# Altium schematic symbol library diode.SCHLIB: 77 symbols
Pins are listed as number, name and electrical type; pins without a type are passive.

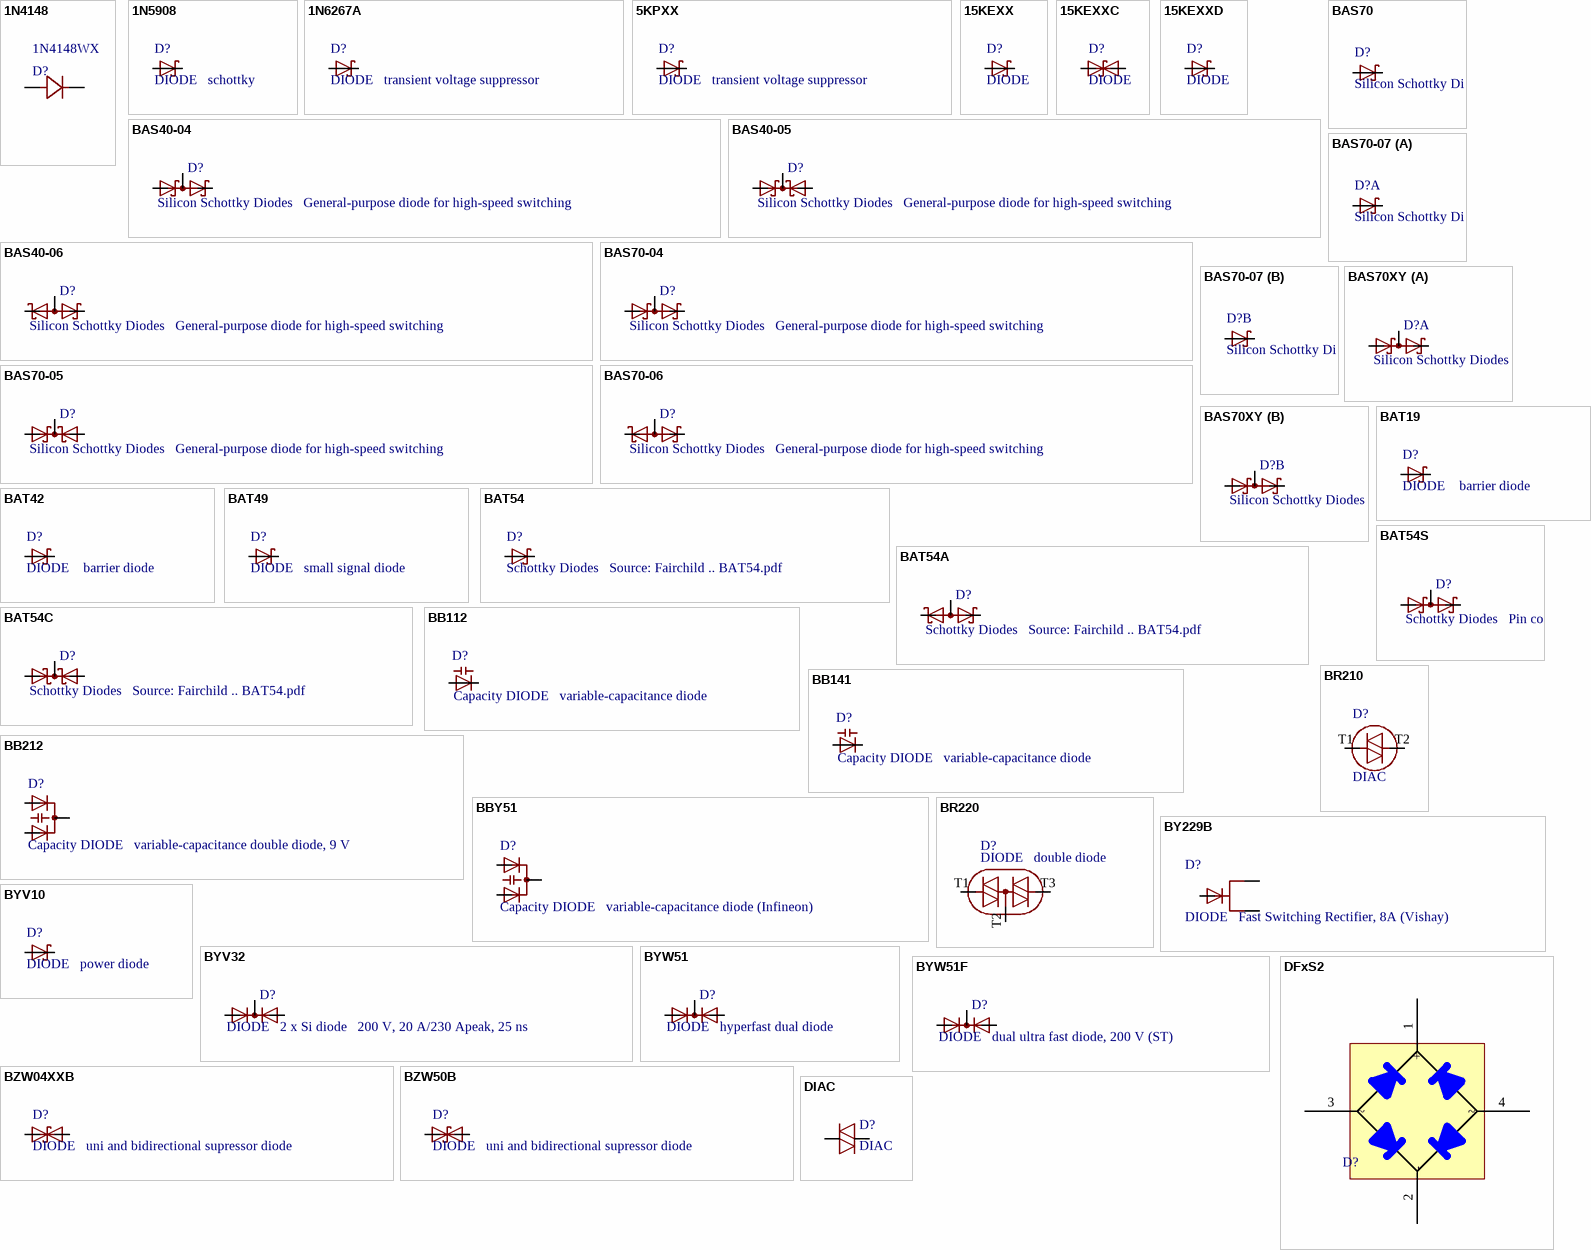
[diagram p0: symbols 1N4148 to DIAC]

## 1N4148
designator D?, comment 1N4148WX
Part Number: 1N4148WX
footprint SOD323
footprint MINIMELF
footprint DO35-7
footprint DO35-10
pins: A, C

## 1N5908
designator D?, comment DIODE   schottky
footprint C4111-15
pins: A, C

## 1N6267A
designator D?, comment DIODE   transient voltage suppressor
footprint C4111-15
pins: A, C

## 5KPXX
designator D?, comment DIODE   transient voltage suppressor
footprint P6T15
pins: A, C

## 15KEXX
designator D?, comment DIODE
footprint CB429-17
pins: A, C

## 15KEXXC
designator D?, comment DIODE
footprint CB429-17
pins: A 1, C 2

## 15KEXXD
designator D?, comment DIODE
footprint DO201T15
pins: A, C

## BAS40-04
designator D?, comment Silicon Schottky Diodes   General-purpose diode for high-speed switching
footprint SOT23
pins: 1 A1, 2 C2, 3 C1A2

## BAS40-05
designator D?, comment Silicon Schottky Diodes   General-purpose diode for high-speed switching
footprint SOT23
pins: 1 A1, 2 A2, 3 C

## BAS40-06
designator D?, comment Silicon Schottky Diodes   General-purpose diode for high-speed switching
footprint SOT23
pins: 1 K1, 2 K2, 3 AA

## BAS70
designator D?, comment Silicon Schottky Diodes   General-purpose diode for high-speed switching
footprint SOT23
pins: 1 A, 3 C

## BAS70-04
designator D?, comment Silicon Schottky Diodes   General-purpose diode for high-speed switching
footprint SOT23
pins: 1 A1, 2 C2, 3 C1A2

## BAS70-05
designator D?, comment Silicon Schottky Diodes   General-purpose diode for high-speed switching
footprint SOT23
pins: 1 A1, 2 A2, 3 C

## BAS70-06
designator D?, comment Silicon Schottky Diodes   General-purpose diode for high-speed switching
footprint SOT23
pins: 1 K1, 2 K2, 3 AA

## BAS70-07
designator D?, comment Silicon Schottky Diodes   General-purpose diode for high-speed switching Source: BAS70_1PS7XSB70_SER_8.pdf
footprint SOT143-R
part A pins: 1 C, 4 A
part B pins: 2 C, 3 A

## BAS70XY
designator D?, comment Silicon Schottky Diodes   General-purpose diode for high-speed switching Source: BAS70_1PS7XSB70_SER_8.pdf
footprint SOT363_PHILIPS
part A pins: 1 A1, 2 C2, 6 C1A2
part B pins: 3 C1A2, 4 A1, 5 C2

## BAT19
designator D?, comment DIODE    barrier diode
footprint DO35-10
pins: A, C

## BAT42
designator D?, comment DIODE    barrier diode
footprint DO35-10
pins: A, C

## BAT49
designator D?, comment DIODE   small signal diode
footprint DO41-10
pins: A, C

## BAT54
designator D?, comment Schottky Diodes   Source: Fairchild .. BAT54.pdf
footprint SOT23
pins: 1 A, 3 C

## BAT54A
designator D?, comment Schottky Diodes   Source: Fairchild .. BAT54.pdf
footprint SOT23
pins: 1 K1, 2 K2, 3 AA

## BAT54C
designator D?, comment Schottky Diodes   Source: Fairchild .. BAT54.pdf
footprint SOT23
pins: 1 A1, 2 A2, 3 CC

## BAT54S
designator D?, comment Schottky Diodes   Pin connection corrected 2011-05-04 Source: Fairchild .. BAT54.pdf
footprint SOT23
pins: 1 A1, 2 C2, 3 C1A2

## BB112
designator D?, comment Capacity DIODE   variable-capacitance diode
footprint SOT54H
pins: A, C

## BB141
designator D?, comment Capacity DIODE   variable-capacitance diode
footprint SOD523
pins: A, C

## BB212
designator D?, comment Capacity DIODE   variable-capacitance double diode, 9 V
footprint SOT54E
pins: A1, A2, C

## BBY51
designator D?, comment Capacity DIODE   variable-capacitance diode (Infineon)
footprint SOT23
pins: 1 A1, 2 A2, 3 C

## BR210
designator D?, comment DIAC
footprint BR210S
pins: T1, T2

## BR220
designator D?, comment DIODE   double diode
footprint BR220S
pins: T1, T2, T3

## BY229B
designator D?, comment DIODE   Fast Switching Rectifier, 8A (Vishay)
footprint TO263AB
pins: 1, 2, K

## BYV10
designator D?, comment DIODE   power diode
footprint DO41-10
pins: A, C

## BYV32
designator D?, comment DIODE   2 x Si diode   200 V, 20 A/230 Apeak, 25 ns
footprint TO220ABS
pins: A1, A2, C

## BYW51
designator D?, comment DIODE   hyperfast dual diode
footprint TO220ABS
pins: A1, A2, C

## BYW51F
designator D?, comment DIODE   dual ultra fast diode, 200 V (ST)
footprint IW220ABS
pins: A1, A2, C

## BZW04XXB
designator D?, comment DIODE   uni and bidirectional supressor diode
footprint F126Z12
pins: A 1, C 2

## BZW50B
designator D?, comment DIODE   uni and bidirectional supressor diode
footprint AG
pins: A 1, C 2

## DFxS2
designator D?
2.0A SURFACE MOUNT GLASS PASSIVATED BRIDGE RECTIFIER; Part Number: DF10S1
footprint SDIP 4L
pins: 1 +, 2 -, 3 ~, 4 ~

## DIAC
designator D?
footprint BR210S
pins: T1 1, T2 2

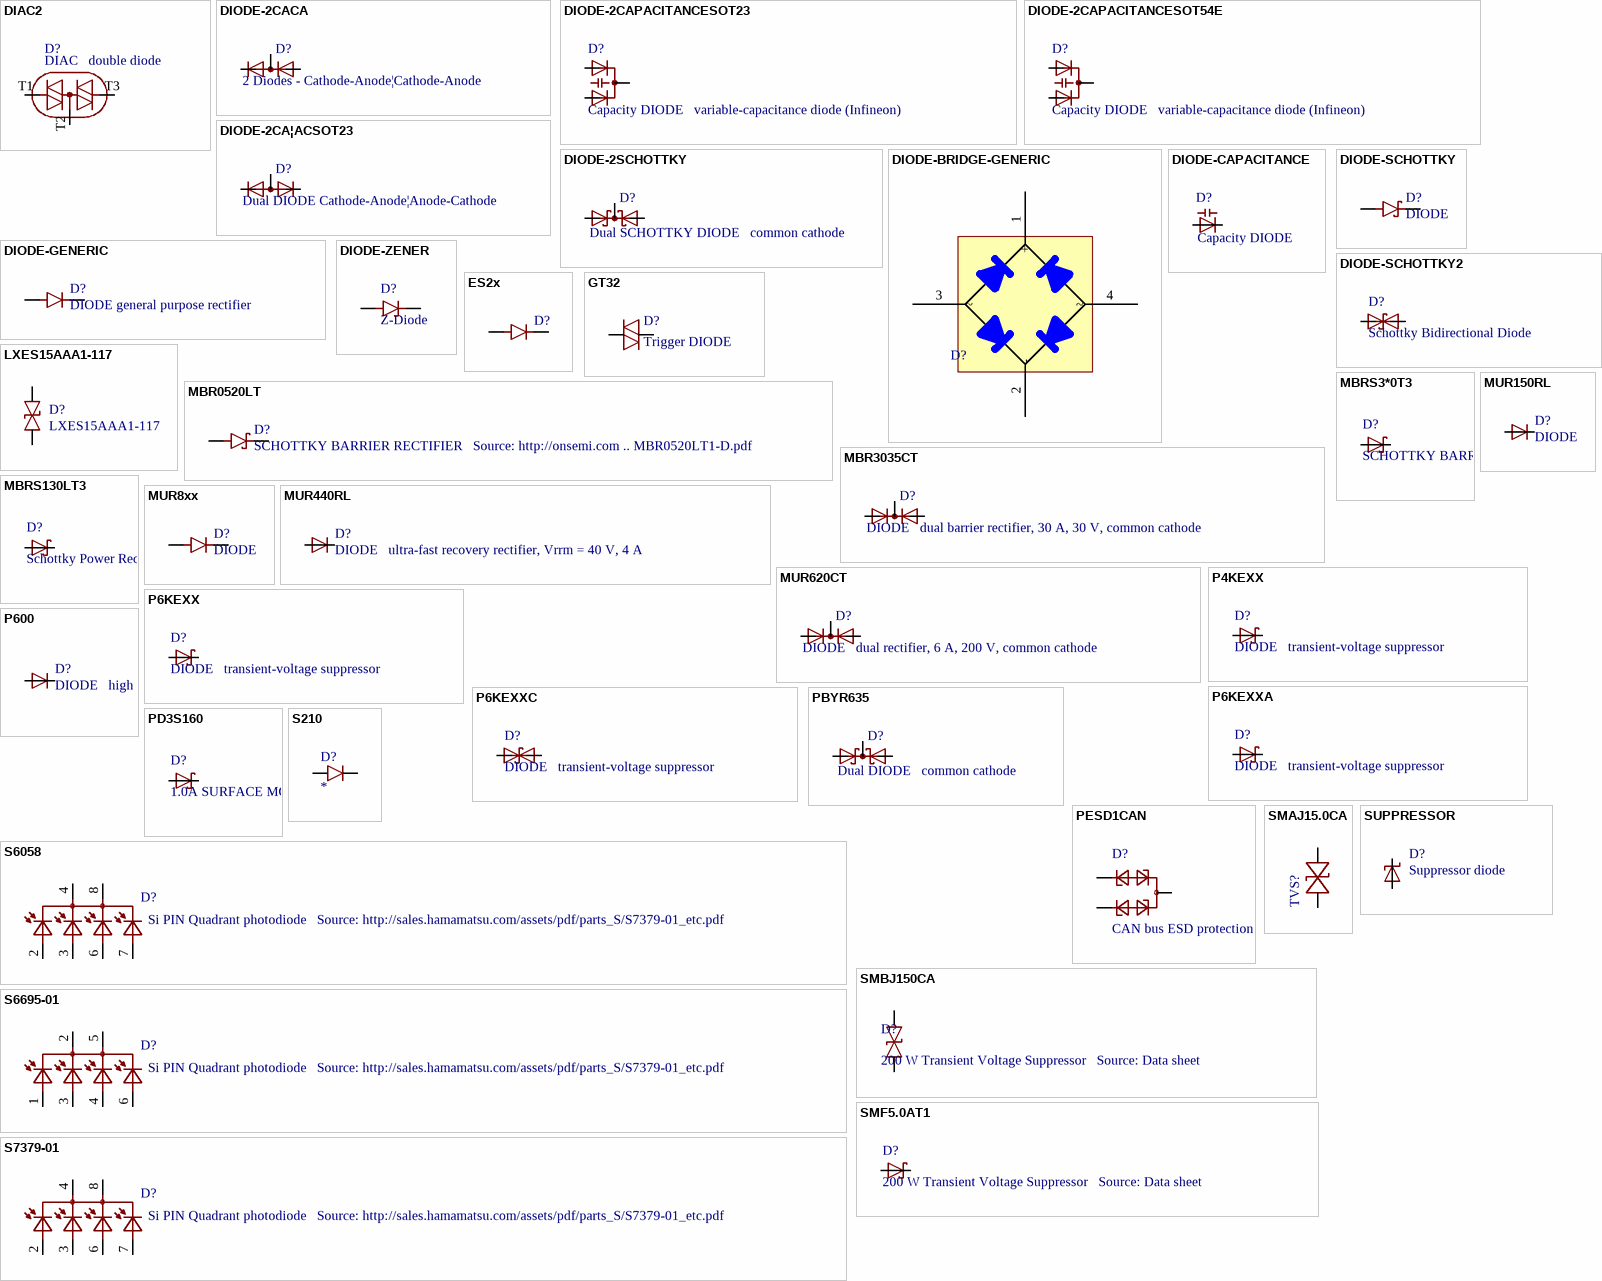
[diagram p1: symbols DIAC2 to SUPPRESSOR]

## DIAC2
designator D?, comment DIAC   double diode
footprint BR220S
pins: T1, T2, T3

## DIODE-2CACA
designator D?, comment 2 Diodes - Cathode-Anode|Cathode-Anode
footprint SOT23
pins: 1 A, 2 C, 3 AC

## DIODE-2CAPACITANCESOT23
designator D?, comment Capacity DIODE   variable-capacitance diode (Infineon)
footprint SOT23
pins: 1 A1, 2 A2, 3 C

## DIODE-2CAPACITANCESOT54E
designator D?, comment Capacity DIODE   variable-capacitance diode (Infineon)
footprint SOT54E
pins: A1, A2, C

## DIODE-2CA|ACSOT23
designator D?, comment Dual DIODE Cathode-Anode|Anode-Cathode
footprint SOT23
pins: 1 K1, 2 K2, 3 A

## DIODE-2SCHOTTKY
designator D?, comment Dual SCHOTTKY DIODE   common cathode
footprint SOT82L
pins: A1, A2, C

## DIODE-BRIDGE-GENERIC
designator D?
Generic Silicon Diode Bridge; Part Number: DF10S1
footprint SDIP 4L
pins: 1 +, 2 -, 3 ~, 4 ~

## DIODE-CAPACITANCE
designator D?, comment Capacity DIODE
footprint SOD523
pins: A, C

## DIODE-GENERIC
designator D?, comment DIODE general purpose rectifier
Generic Silicon Diode
footprint DO41-10
pins: A, C

## DIODE-SCHOTTKY
designator D?, comment DIODE
Genneric Schottky Diode
footprint SOD123
pins: A, C

## DIODE-SCHOTTKY2
designator D?, comment Schottky Bidirectional Diode
footprint CB417-15
pins: A 1, C 2

## DIODE-ZENER
designator D?, comment Z-Diode
Generic Zener Diode
footprint SOD123FL
pins: A, C

## ES2x
designator D?
2.0A SURFACE MOUNT SUPER-FAST RECTIFIER
footprint SMB
pins: A, C

## GT32
designator D?, comment Trigger DIODE
footprint GT32
pins: 1, 2

## LXES15AAA1-117
designator D?
Diode protection
footprint 402
pins: A, C

## MBR0520LT
designator D?, comment SCHOTTKY BARRIER RECTIFIER   Source: http://onsemi.com .. MBR0520LT1-D.pdf
SCHOTTKY BARRIER / RECTIFIER / 0.5 AMPERES, 20 VOLTS
footprint SOD123
pins: A, C

## MBR3035CT
designator D?, comment DIODE   dual barrier rectifier, 30 A, 30 V, common cathode
footprint C1103
pins: A1, A2, C@1 C

## MBRS3*0T3
designator D?, comment SCHOTTKY BARRIER RECTIFIER 3.0 AMPERES 20, 30, 40 VOLT   Source: MBRS340T3-D.pdf
footprint SMC
pins: A, C

## MBRS130LT3
designator D?, comment Schottky Power Rectifier   Source: http://www.onsemi.com/pub/Collateral/MBRS130LT3-D.PDF
footprint SMB
pins: A, C

## MUR8xx
designator D?, comment DIODE
ULTRAFAST RECTIFIERS / 8.0 AMPERES, 50−600 VOLTS
footprint TO220ACS
pins: A, C

## MUR150RL
designator D?, comment DIODE
footprint DO41-10
pins: A, C

## MUR440RL
designator D?, comment DIODE   ultra-fast recovery rectifier, Vrrm = 40 V, 4 A
footprint C2673
pins: A, C

## MUR620CT
designator D?, comment DIODE   dual rectifier, 6 A, 200 V, common cathode
ULTRAFAST RECTIFIER / 6.0 AMPERES, 200 VOLTS
footprint TO220AB
pins: A1, A2, C

## P4KEXX
designator D?, comment DIODE   transient-voltage suppressor
footprint DO41-10
pins: A, C

## P6KEXX
designator D?, comment DIODE   transient-voltage suppressor
footprint CB417-15
pins: A, C

## P6KEXXA
designator D?, comment DIODE   transient-voltage suppressor
footprint C1702-15
pins: A, C

## P6KEXXC
designator D?, comment DIODE   transient-voltage suppressor
footprint CB417-15
pins: A 1, C 2

## P600
designator D?, comment DIODE   high voltage diode, silicon rectifier   1.0 A to 6.0 A, 50 V to 1300 V   http://www.kosemi.com/product/diosr.html
footprint P6-15
pins: A, C

## PBYR635
designator D?, comment Dual DIODE   common cathode
footprint SOT82S
pins: A1, A2, C

## PD3S160
designator D?, comment 1.0A SURFACE MOUNT SCHOTTKY BARRIER RECTIFIER POWERDI Â® 323    Source: http://www.diodes.com/datasheets/ds30899.pdf
1.0A SURFACE MOUNT SCHOTTKY BARRIER RECTIFIER
footprint POWERDI323
pins: A, C

## PESD1CAN
designator D?, comment CAN bus ESD protection diode   Source: http://www.nxp.com/documents/data_sheet/PESD1CAN.pdf
footprint SOT23
pins: 1, 2, 3

## S210
designator D?
2.0 A Schottky Barrier Rectifiers
footprint DO214AA
pins: A, C

## S6058
designator D?, comment Si PIN Quadrant photodiode   Source: http://sales.hamamatsu.com/assets/pdf/parts_S/S7379-01_etc.pdf
footprint S6058
pins: 2 AA, 3 AB, 4 C1, 6 AC, 7 AD, 8 C2

## S6695-01
designator D?, comment Si PIN Quadrant photodiode   Source: http://sales.hamamatsu.com/assets/pdf/parts_S/S7379-01_etc.pdf
footprint S6695-01
pins: 1 AA, 2 C1, 3 AB, 4 AC, 5 C2, 6 AD

## S7379-01
designator D?, comment Si PIN Quadrant photodiode   Source: http://sales.hamamatsu.com/assets/pdf/parts_S/S7379-01_etc.pdf
footprint S7379-01
pins: 2 AA, 3 AB, 4 C1, 6 AC, 7 AD, 8 C2

## SMAJ15.0CA
designator TVS?  (value not drawn)
Vendor: Bourns; Part Number: SMAJ15.0CA
footprint SMA-DO214AC
pins: A, K

## SMBJ150CA
designator D?, comment 200 W Transient Voltage Suppressor   Source: Data sheet
Part Number: SMBJ150CA
footprint SMB/DO-214AA_meter_sm01B
pins: 1, 2

## SMF5.0AT1
designator D?, comment 200 W Transient Voltage Suppressor   Source: Data sheet
footprint SOD123FL
pins: A, C

## SUPPRESSOR
designator D?, comment Suppressor diode
footprint SMBG
pins: A, C